# EAGLE library part TETHER_BOARD (library SHC)
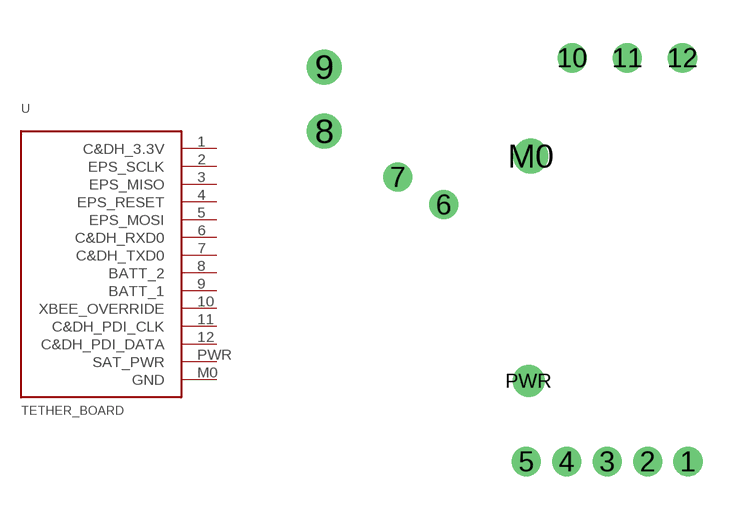
[diagram p36: symbol with the pads of TETHER_BOARD; footprint TETHER_BOARD]

Designator prefix -

## TETHER_BOARD  [TETHER_BOARD]
1  C&DH_3.3V
2  EPS_SCLK
3  EPS_MISO
4  EPS_RESET
5  EPS_MOSI
6  C&DH_RXD0
7  C&DH_TXD0
8  BATT_2
9  BATT_1
10  XBEE_OVERRIDE
11  C&DH_PDI_CLK
12  C&DH_PDI_DATA
M0  GND
PWR  SAT_PWR

## Footprint TETHER_BOARD (pad centres in mm)
drill 0.5: 1 -0.66,-7.671; 2 -2.057,-7.671; 3 -3.454,-7.671; 4 -4.851,-7.671; 5 -6.248,-7.671; 6 -9.106,1.219; 7 -10.693,2.172; 10 -4.661,6.299; 11 -2.756,6.299; 12 -0.851,6.299
drill 0.7: 8 -13.233,3.759; 9 -13.233,5.982; M0 -6.096,2.896
drill 0.6: PWR -6.172,-4.877